# Altium schematic symbol library CN_DIN41612F.SchLib: 1 symbol
Pins are listed as number, name and electrical type; pins without a type are passive.

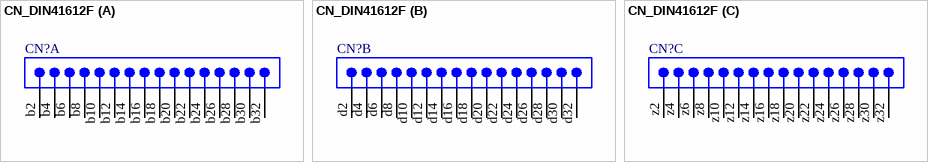
[diagram p0: symbol CN_DIN41612F]

## CN_DIN41612F
designator CN?
Eurocard DIN 41612, Type F, 48 Position, Rows z+b+d, Performance level 2, Male, Lead 3.0 mm, Pitch 2.54 mm
part A pins: b2, b4, b6, b8, b10, b12, b14, b16, b18, b20, b22, b24, b26, b28, b30, b32
part B pins: d2, d4, d6, d8, d10, d12, d14, d16, d18, d20, d22, d24, d26, d28, d30, d32
part C pins: z2, z4, z6, z8, z10, z12, z14, z16, z18, z20, z22, z24, z26, z28, z30, z32